# Altium footprint library TRANS-001.PcbLib: 1 footprints
Each footprint in its own frame and in the unit in brackets; x right, y up, seen from the top. Pads: shape width x height; smd on the part's side, far side on the other; paste and mask are expansions set on the pad; w line width, h text height; cw(c..) or ccw(c..) is an arc to the next point about the centre after c.
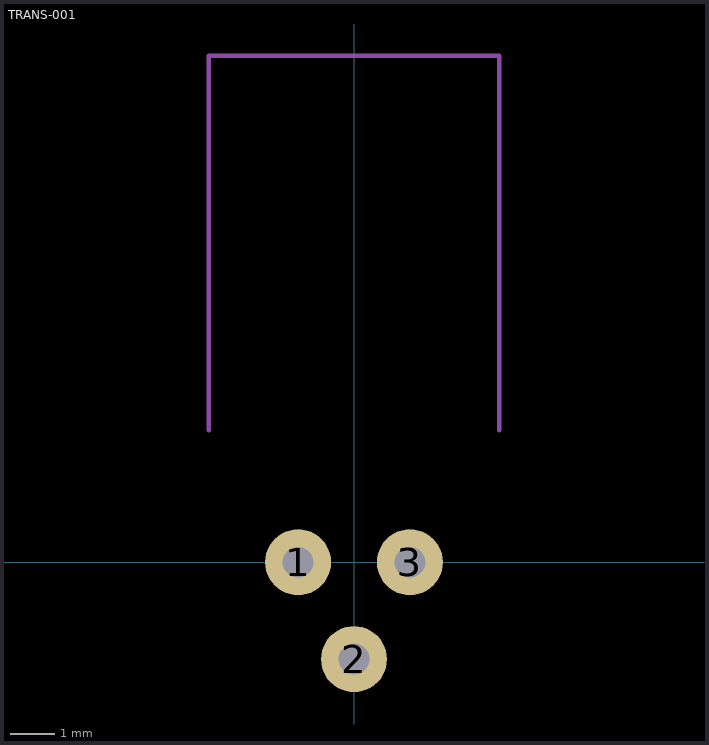
[diagram p0: the footprint, top view; thin cyan lines are the x and y axes]

## TRANS-001 [mm]
pads (3):
  round 1.5 hole 0.7: 1(-1.27,0) 2(0,-2.2) 3(1.27,0)
Top Assembly:
  lines w0.1: -3.3,3 -3.3,11.5 3.3,11.5 3.3,3
  text "'.Designator'" at -1.9,6.225 h0.7
3D body "дроссель.STEP": height 6.6, standoff 0, extent -3.3,-1.675 3.3,11.475